# Altium integrated library TerminalBlocksPluggable_7.62mm.IntLib: 48 symbols
Pins are listed as number, name and electrical type; pins without a type are passive.

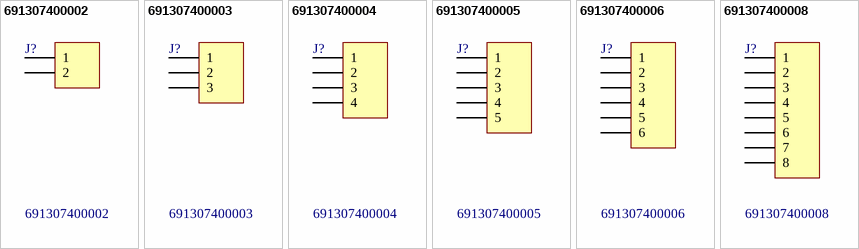
[diagram p0: symbols 691307400002 to 691307400008]

## 691307400002
designator J?
WR-TBL Terminal Blocks Serie 3074 - 7.62 mm; Manufacturer: Würth Elektronik eiSos GmbH; ComponentLink1 Description: Manufacturer; ComponentLink2 Description: Datasheet; NoPins: 02; Created Date: 11 April 2014; partNo: 691307400002; ComponentLink1URL: http://www.we-online.com; ComponentLink2URL: http://katalog.we-online.de/em/datasheet/6913074000xx.pdf; Created by: Karrer Zheng
footprint 691307400002 (7.62 mm - Reversed Gender Vertical PCB Header - 02p)
pins: 1, 2

## 691307400003
designator J?
WR-TBL Terminal Blocks Serie 3074 - 7.62 mm; Manufacturer: Würth Elektronik eiSos GmbH; ComponentLink1 Description: Manufacturer; ComponentLink2 Description: Datasheet; NoPins: 03; Created Date: 11 April 2014; partNo: 691307400003; ComponentLink1URL: http://www.we-online.com; ComponentLink2URL: http://katalog.we-online.de/em/datasheet/6913074000xx.pdf; Created by: Karrer Zheng
footprint 691307400003 (7.62 mm - Reversed Gender Vertical PCB Header - 03p)
pins: 1, 2, 3

## 691307400004
designator J?
WR-TBL Terminal Blocks Serie 3074 - 7.62 mm; Manufacturer: Würth Elektronik eiSos GmbH; ComponentLink1 Description: Manufacturer; ComponentLink2 Description: Datasheet; NoPins: 04; Created Date: 11 April 2014; partNo: 691307400004; ComponentLink1URL: http://www.we-online.com; ComponentLink2URL: http://katalog.we-online.de/em/datasheet/6913074000xx.pdf; Created by: Karrer Zheng
footprint 691307400004 (7.62 mm - Reversed Gender Vertical PCB Header - 04p)
pins: 1, 2, 3, 4

## 691307400005
designator J?
WR-TBL Terminal Blocks Serie 3074 - 7.62 mm; Manufacturer: Würth Elektronik eiSos GmbH; ComponentLink1 Description: Manufacturer; ComponentLink2 Description: Datasheet; NoPins: 05; Created Date: 11 April 2014; partNo: 691307400005; ComponentLink1URL: http://www.we-online.com; ComponentLink2URL: http://katalog.we-online.de/em/datasheet/6913074000xx.pdf; Created by: Karrer Zheng
footprint 691307400005 (7.62 mm - Reversed Gender Vertical PCB Header - 05p)
pins: 1, 2, 3, 4, 5

## 691307400006
designator J?
WR-TBL Terminal Blocks Serie 3074 - 7.62 mm; Manufacturer: Würth Elektronik eiSos GmbH; ComponentLink1 Description: Manufacturer; ComponentLink2 Description: Datasheet; NoPins: 06; Created Date: 11 April 2014; partNo: 691307400006; ComponentLink1URL: http://www.we-online.com; ComponentLink2URL: http://katalog.we-online.de/em/datasheet/6913074000xx.pdf; Created by: Karrer Zheng
footprint 691307400006 (7.62 mm - Reversed Gender Vertical PCB Header - 06p)
pins: 1, 2, 3, 4, 5, 6

## 691307400008
designator J?
WR-TBL Terminal Blocks Serie 3074 - 7.62 mm; Manufacturer: Würth Elektronik eiSos GmbH; ComponentLink1 Description: Manufacturer; ComponentLink2 Description: Datasheet; NoPins: 08; Created Date: 11 April 2014; partNo: 691307400008; ComponentLink1URL: http://www.we-online.com; ComponentLink2URL: http://katalog.we-online.de/em/datasheet/6913074000xx.pdf; Created by: Karrer Zheng
footprint 691307400008 (7.62 mm - Reversed Gender Vertical PCB Header - 08p)
pins: 1, 2, 3, 4, 5, 6, 7, 8


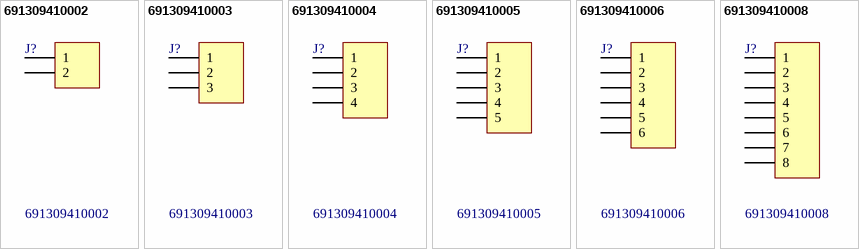
[diagram p1: symbols 691309410002 to 691309410008]

## 691309410002
designator J?
WR-TBL Terminal Blocks Serie 3094 - 7.62 mm; Manufacturer: Würth Elektronik eiSos GmbH; ComponentLink1 Description: Manufacturer; ComponentLink2 Description: Datasheet; NoPins: 02; Created Date: 11 April 2014; partNo: 691309410002; ComponentLink1URL: http://www.we-online.com; ComponentLink2URL: http://katalog.we-online.de/em/datasheet/6913094100xx.pdf; Created by: Karrer Zheng
footprint 691309410002
pins: 1, 2

## 691309410003
designator J?
WR-TBL Terminal Blocks Serie 3094 - 7.62 mm; Manufacturer: Würth Elektronik eiSos GmbH; ComponentLink1 Description: Manufacturer; ComponentLink2 Description: Datasheet; NoPins: 03; Created Date: 11 April 2014; partNo: 691309410003; ComponentLink1URL: http://www.we-online.com; ComponentLink2URL: http://katalog.we-online.de/em/datasheet/6913094100xx.pdf; Created by: Karrer Zheng
footprint 691309410003
pins: 1, 2, 3

## 691309410004
designator J?
WR-TBL Terminal Blocks Serie 3094 - 7.62 mm; Manufacturer: Würth Elektronik eiSos GmbH; ComponentLink1 Description: Manufacturer; ComponentLink2 Description: Datasheet; NoPins: 04; Created Date: 11 April 2014; partNo: 691309410004; ComponentLink1URL: http://www.we-online.com; ComponentLink2URL: http://katalog.we-online.de/em/datasheet/6913094100xx.pdf; Created by: Karrer Zheng
footprint 691309410004
pins: 1, 2, 3, 4

## 691309410005
designator J?
WR-TBL Terminal Blocks Serie 3094 - 7.62 mm; Manufacturer: Würth Elektronik eiSos GmbH; ComponentLink1 Description: Manufacturer; ComponentLink2 Description: Datasheet; NoPins: 05; Created Date: 11 April 2014; partNo: 691309410005; ComponentLink1URL: http://www.we-online.com; ComponentLink2URL: http://katalog.we-online.de/em/datasheet/6913094100xx.pdf; Created by: Karrer Zheng
footprint 691309410005
pins: 1, 2, 3, 4, 5

## 691309410006
designator J?
WR-TBL Terminal Blocks Serie 3094 - 7.62 mm; Manufacturer: Würth Elektronik eiSos GmbH; ComponentLink1 Description: Manufacturer; ComponentLink2 Description: Datasheet; NoPins: 06; Created Date: 11 April 2014; partNo: 691309410006; ComponentLink1URL: http://www.we-online.com; ComponentLink2URL: http://katalog.we-online.de/em/datasheet/6913094100xx.pdf; Created by: Karrer Zheng
footprint 691309410006
pins: 1, 2, 3, 4, 5, 6

## 691309410008
designator J?
WR-TBL Terminal Blocks Serie 3094 - 7.62 mm; Manufacturer: Würth Elektronik eiSos GmbH; ComponentLink1 Description: Manufacturer; ComponentLink2 Description: Datasheet; NoPins: 08; Created Date: 11 April 2014; partNo: 691309410008; ComponentLink1URL: http://www.we-online.com; ComponentLink2URL: http://katalog.we-online.de/em/datasheet/6913094100xx.pdf; Created by: Karrer Zheng
footprint 691309410008
pins: 1, 2, 3, 4, 5, 6, 7, 8


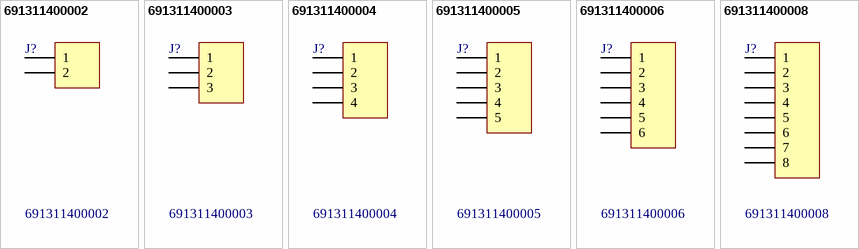
[diagram p2: symbols 691311400002 to 691311400008]

## 691311400002
designator J?
WR-TBL Terminal Blocks Serie 3114 - 7.62 mm; Manufacturer: Würth Elektronik eiSos GmbH; ComponentLink1 Description: Manufacturer; ComponentLink2 Description: Datasheet; NoPins: 02; Created Date: 09 April 2014; partNo: 691311400002; ComponentLink1URL: http://www.we-online.com; ComponentLink2URL: http://katalog.we-online.de/em/datasheet/6913114000xx.pdf; Created by: Karrer Zheng
footprint 691311400002 (7.62 mm - Open Vertical PCB Header - 2p)
pins: 1, 2

## 691311400003
designator J?
WR-TBL Terminal Blocks Serie 3114 - 7.62 mm; Manufacturer: Würth Elektronik eiSos GmbH; ComponentLink1 Description: Manufacturer; ComponentLink2 Description: Datasheet; NoPins: 03; Created Date: 09 April 2014; partNo: 691311400003; ComponentLink1URL: http://www.we-online.com; ComponentLink2URL: http://katalog.we-online.de/em/datasheet/6913114000xx.pdf; Created by: Karrer Zheng
footprint 691311400003 (7.62 mm - Open Vertical PCB Header - 3p)
pins: 1, 2, 3

## 691311400004
designator J?
WR-TBL Terminal Blocks Serie 3114 - 7.62 mm; Manufacturer: Würth Elektronik eiSos GmbH; ComponentLink1 Description: Manufacturer; ComponentLink2 Description: Datasheet; NoPins: 04; Created Date: 09 April 2014; partNo: 691311400004; ComponentLink1URL: http://www.we-online.com; ComponentLink2URL: http://katalog.we-online.de/em/datasheet/6913114000xx.pdf; Created by: Karrer Zheng
footprint 691311400004 (7.62 mm - Open Vertical PCB Header - 4p)
pins: 1, 2, 3, 4

## 691311400005
designator J?
WR-TBL Terminal Blocks Serie 3114 - 7.62 mm; Manufacturer: Würth Elektronik eiSos GmbH; ComponentLink1 Description: Manufacturer; ComponentLink2 Description: Datasheet; NoPins: 05; Created Date: 09 April 2014; partNo: 691311400005; ComponentLink1URL: http://www.we-online.com; ComponentLink2URL: http://katalog.we-online.de/em/datasheet/6913114000xx.pdf; Created by: Karrer Zheng
footprint 691311400005 (7.62 mm - Open Vertical PCB Header - 5p)
pins: 1, 2, 3, 4, 5

## 691311400006
designator J?
WR-TBL Terminal Blocks Serie 3114 - 7.62 mm; Manufacturer: Würth Elektronik eiSos GmbH; ComponentLink1 Description: Manufacturer; ComponentLink2 Description: Datasheet; NoPins: 06; Created Date: 09 April 2014; partNo: 691311400006; ComponentLink1URL: http://www.we-online.com; ComponentLink2URL: http://katalog.we-online.de/em/datasheet/6913114000xx.pdf; Created by: Karrer Zheng
footprint 691311400006 (7.62 mm - Open Vertical PCB Header - 6p)
pins: 1, 2, 3, 4, 5, 6

## 691311400008
designator J?
WR-TBL Terminal Blocks Serie 3114 - 7.62 mm; Manufacturer: Würth Elektronik eiSos GmbH; ComponentLink1 Description: Manufacturer; ComponentLink2 Description: Datasheet; NoPins: 08; Created Date: 09 April 2014; partNo: 691311400008; ComponentLink1URL: http://www.we-online.com; ComponentLink2URL: http://katalog.we-online.de/em/datasheet/6913114000xx.pdf; Created by: Karrer Zheng
footprint 691311400008 (7.62 mm - Open Vertical PCB Header - 8p)
pins: 1, 2, 3, 4, 5, 6, 7, 8


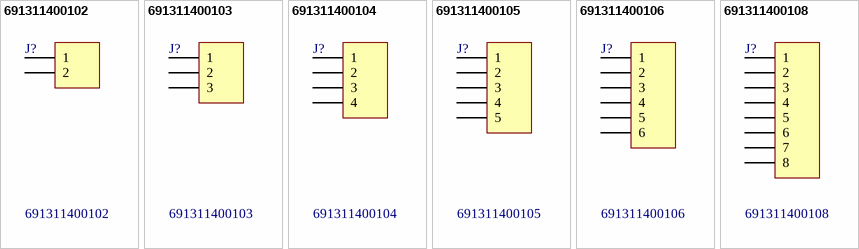
[diagram p3: symbols 691311400102 to 691311400108]

## 691311400102
designator J?
WR-TBL Terminal Blocks Serie 3114 - 7.62 mm; Manufacturer: Würth Elektronik eiSos GmbH; ComponentLink1 Description: Manufacturer; ComponentLink2 Description: Datasheet; NoPins: 02; Created Date: 09 April 2014; partNo: 691311400102; ComponentLink1URL: http://www.we-online.com; ComponentLink2URL: http://katalog.we-online.de/em/datasheet/6913114001xx.pdf; Created by: Karrer Zheng
footprint 691311400102 (7.62 mm - Closed Vertical PCB Header - 2p)
pins: 1, 2

## 691311400103
designator J?
WR-TBL Terminal Blocks Serie 3114 - 7.62 mm; Manufacturer: Würth Elektronik eiSos GmbH; ComponentLink1 Description: Manufacturer; ComponentLink2 Description: Datasheet; NoPins: 03; Created Date: 09 April 2014; partNo: 691311400103; ComponentLink1URL: http://www.we-online.com; ComponentLink2URL: http://katalog.we-online.de/em/datasheet/6913114001xx.pdf; Created by: Karrer Zheng
footprint 691311400103 (7.62 mm - Closed Vertical PCB Header - 3p)
pins: 1, 2, 3

## 691311400104
designator J?
WR-TBL Terminal Blocks Serie 3114 - 7.62 mm; Manufacturer: Würth Elektronik eiSos GmbH; ComponentLink1 Description: Manufacturer; ComponentLink2 Description: Datasheet; NoPins: 04; Created Date: 09 April 2014; partNo: 691311400104; ComponentLink1URL: http://www.we-online.com; ComponentLink2URL: http://katalog.we-online.de/em/datasheet/6913114001xx.pdf; Created by: Karrer Zheng
footprint 691311400104 (7.62 mm - Closed Vertical PCB Header - 4p)
pins: 1, 2, 3, 4

## 691311400105
designator J?
WR-TBL Terminal Blocks Serie 3114 - 7.62 mm; Manufacturer: Würth Elektronik eiSos GmbH; ComponentLink1 Description: Manufacturer; ComponentLink2 Description: Datasheet; NoPins: 05; Created Date: 09 April 2014; partNo: 691311400105; ComponentLink1URL: http://www.we-online.com; ComponentLink2URL: http://katalog.we-online.de/em/datasheet/6913114001xx.pdf; Created by: Karrer Zheng
footprint 691311400105 (7.62 mm - Closed Vertical PCB Header - 5p)
pins: 1, 2, 3, 4, 5

## 691311400106
designator J?
WR-TBL Terminal Blocks Serie 3114 - 7.62 mm; Manufacturer: Würth Elektronik eiSos GmbH; ComponentLink1 Description: Manufacturer; ComponentLink2 Description: Datasheet; NoPins: 06; Created Date: 09 April 2014; partNo: 691311400106; ComponentLink1URL: http://www.we-online.com; ComponentLink2URL: http://katalog.we-online.de/em/datasheet/6913114001xx.pdf; Created by: Karrer Zheng
footprint 691311400106 (7.62 mm - Closed Vertical PCB Header - 6p)
pins: 1, 2, 3, 4, 5, 6

## 691311400108
designator J?
WR-TBL Terminal Blocks Serie 3114 - 7.62 mm; Manufacturer: Würth Elektronik eiSos GmbH; ComponentLink1 Description: Manufacturer; ComponentLink2 Description: Datasheet; NoPins: 08; Created Date: 09 April 2014; partNo: 691311400108; ComponentLink1URL: http://www.we-online.com; ComponentLink2URL: http://katalog.we-online.de/em/datasheet/6913114001xx.pdf; Created by: Karrer Zheng
footprint 691311400108 (7.62 mm - Closed Vertical PCB Header - 8p)
pins: 1, 2, 3, 4, 5, 6, 7, 8


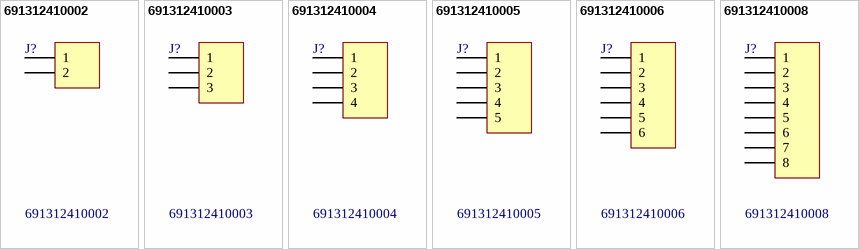
[diagram p4: symbols 691312410002 to 691312410008]

## 691312410002
designator J?
WR-TBL Terminal Blocks Serie 3124 - 7.62 mm; Manufacturer: Würth Elektronik eiSos GmbH; ComponentLink1 Description: Manufacturer; ComponentLink2 Description: Datasheet; NoPins: 02; Created Date: 09 April 2014; partNo: 691312410002; ComponentLink1URL: http://www.we-online.com; ComponentLink2URL: http://katalog.we-online.de/em/datasheet/6913124100xx.pdf; Created by: Karrer Zheng
footprint 691312410002 (7.62 mm -Open Horizontal PCB Header - 02p)
pins: 1, 2

## 691312410003
designator J?
WR-TBL Terminal Blocks Serie 3124 - 7.62 mm; Manufacturer: Würth Elektronik eiSos GmbH; ComponentLink1 Description: Manufacturer; ComponentLink2 Description: Datasheet; NoPins: 03; Created Date: 09 April 2014; partNo: 691312410003; ComponentLink1URL: http://www.we-online.com; ComponentLink2URL: http://katalog.we-online.de/em/datasheet/6913124100xx.pdf; Created by: Karrer Zheng
footprint 691312410003 (7.62 mm -Open Horizontal PCB Header - 03p)
pins: 1, 2, 3

## 691312410004
designator J?
WR-TBL Terminal Blocks Serie 3124 - 7.62 mm; Manufacturer: Würth Elektronik eiSos GmbH; ComponentLink1 Description: Manufacturer; ComponentLink2 Description: Datasheet; NoPins: 04; Created Date: 09 April 2014; partNo: 691312410004; ComponentLink1URL: http://www.we-online.com; ComponentLink2URL: http://katalog.we-online.de/em/datasheet/6913124100xx.pdf; Created by: Karrer Zheng
footprint 691312410004 (7.62 mm -Open Horizontal PCB Header - 04p)
pins: 1, 2, 3, 4

## 691312410005
designator J?
WR-TBL Terminal Blocks Serie 3124 - 7.62 mm; Manufacturer: Würth Elektronik eiSos GmbH; ComponentLink1 Description: Manufacturer; ComponentLink2 Description: Datasheet; NoPins: 05; Created Date: 09 April 2014; partNo: 691312410005; ComponentLink1URL: http://www.we-online.com; ComponentLink2URL: http://katalog.we-online.de/em/datasheet/6913124100xx.pdf; Created by: Karrer Zheng
footprint 691312410005 (7.62 mm -Open Horizontal PCB Header - 05p)
pins: 1, 2, 3, 4, 5

## 691312410006
designator J?
WR-TBL Terminal Blocks Serie 3124 - 7.62 mm; Manufacturer: Würth Elektronik eiSos GmbH; ComponentLink1 Description: Manufacturer; ComponentLink2 Description: Datasheet; NoPins: 06; Created Date: 09 April 2014; partNo: 691312410006; ComponentLink1URL: http://www.we-online.com; ComponentLink2URL: http://katalog.we-online.de/em/datasheet/6913124100xx.pdf; Created by: Karrer Zheng
footprint 691312410006 (7.62 mm -Open Horizontal PCB Header - 06p)
pins: 1, 2, 3, 4, 5, 6

## 691312410008
designator J?
WR-TBL Terminal Blocks Serie 3124 - 7.62 mm; Manufacturer: Würth Elektronik eiSos GmbH; ComponentLink1 Description: Manufacturer; ComponentLink2 Description: Datasheet; NoPins: 08; Created Date: 09 April 2014; partNo: 691312410008; ComponentLink1URL: http://www.we-online.com; ComponentLink2URL: http://katalog.we-online.de/em/datasheet/6913124100xx.pdf; Created by: Karrer Zheng
footprint 691312410008 (7.62 mm -Open Horizontal PCB Header - 08p)
pins: 1, 2, 3, 4, 5, 6, 7, 8


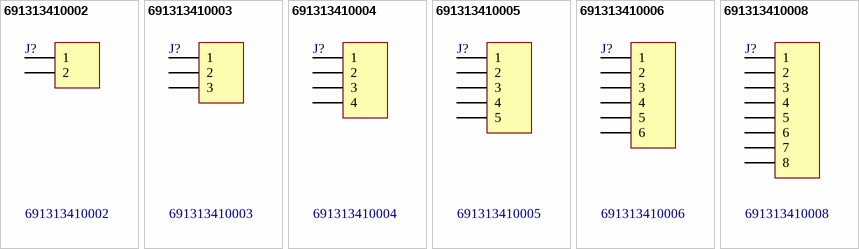
[diagram p5: symbols 691313410002 to 691313410008]

## 691313410002
designator J?
WR-TBL Terminal Blocks Serie 3134 - 7.62 mm; Manufacturer: Würth Elektronik eiSos GmbH; ComponentLink1 Description: Manufacturer; ComponentLink2 Description: Datasheet; NoPins: 02; Created Date: 09 April 2014; partNo: 691313410002; ComponentLink1URL: http://www.we-online.com; ComponentLink2URL: http://katalog.we-online.de/em/datasheet/6913134100xx.pdf; Created by: Karrer Zheng
footprint 691313410002 (7.62 mm - Closed Horizonal PCB Header - 2p)
pins: 1, 2

## 691313410003
designator J?
WR-TBL Terminal Blocks Serie 3134 - 7.62 mm; Manufacturer: Würth Elektronik eiSos GmbH; ComponentLink1 Description: Manufacturer; ComponentLink2 Description: Datasheet; NoPins: 03; Created Date: 09 April 2014; partNo: 691313410003; ComponentLink1URL: http://www.we-online.com; ComponentLink2URL: http://katalog.we-online.de/em/datasheet/6913134100xx.pdf; Created by: Karrer Zheng
footprint 691313410003 (7.62 mm - Closed Horizonal PCB Header - 3p)
pins: 1, 2, 3

## 691313410004
designator J?
WR-TBL Terminal Blocks Serie 3134 - 7.62 mm; Manufacturer: Würth Elektronik eiSos GmbH; ComponentLink1 Description: Manufacturer; ComponentLink2 Description: Datasheet; NoPins: 04; Created Date: 09 April 2014; partNo: 691313410004; ComponentLink1URL: http://www.we-online.com; ComponentLink2URL: http://katalog.we-online.de/em/datasheet/6913134100xx.pdf; Created by: Karrer Zheng
footprint 691313410004 (7.62 mm - Closed Horizonal PCB Header - 4p)
pins: 1, 2, 3, 4

## 691313410005
designator J?
WR-TBL Terminal Blocks Serie 3134 - 7.62 mm; Manufacturer: Würth Elektronik eiSos GmbH; ComponentLink1 Description: Manufacturer; ComponentLink2 Description: Datasheet; NoPins: 05; Created Date: 09 April 2014; partNo: 691313410005; ComponentLink1URL: http://www.we-online.com; ComponentLink2URL: http://katalog.we-online.de/em/datasheet/6913134100xx.pdf; Created by: Karrer Zheng
footprint 691313410005 (7.62 mm - Closed Horizonal PCB Header - 5p)
pins: 1, 2, 3, 4, 5

## 691313410006
designator J?
WR-TBL Terminal Blocks Serie 3134 - 7.62 mm; Manufacturer: Würth Elektronik eiSos GmbH; ComponentLink1 Description: Manufacturer; ComponentLink2 Description: Datasheet; NoPins: 06; Created Date: 09 April 2014; partNo: 691313410006; ComponentLink1URL: http://www.we-online.com; ComponentLink2URL: http://katalog.we-online.de/em/datasheet/6913134100xx.pdf; Created by: Karrer Zheng
footprint 691313410006 (7.62 mm - Closed Horizonal PCB Header - 6p)
pins: 1, 2, 3, 4, 5, 6

## 691313410008
designator J?
WR-TBL Terminal Blocks Serie 3134 - 7.62 mm; Manufacturer: Würth Elektronik eiSos GmbH; ComponentLink1 Description: Manufacturer; ComponentLink2 Description: Datasheet; NoPins: 08; Created Date: 09 April 2014; partNo: 691313410008; ComponentLink1URL: http://www.we-online.com; ComponentLink2URL: http://katalog.we-online.de/em/datasheet/6913134100xx.pdf; Created by: Karrer Zheng
footprint 691313410008 (7.62 mm - Closed Horizonal PCB Header - 8p)
pins: 1, 2, 3, 4, 5, 6, 7, 8


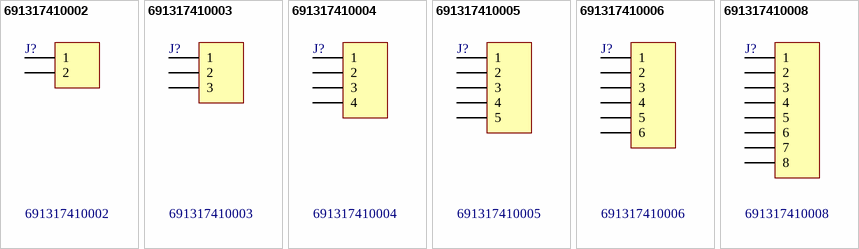
[diagram p6: symbols 691317410002 to 691317410008]

## 691317410002
designator J?
WR-TBL Terminal Blocks Serie 3174 - 7.62 mm with Flanges; Manufacturer: Würth Elektronik eiSos GmbH; ComponentLink1 Description: Manufacturer; ComponentLink2 Description: Datasheet; NoPins: 02; Created Date: 09 April 2014; partNo: 691317410002; ComponentLink1URL: http://www.we-online.com; ComponentLink2URL: http://katalog.we-online.de/em/datasheet/6913174100xx.pdf; Created by: Karrer Zheng
footprint 691317410002 (7.62 mm - Closed Horizonal PCB Header with Flanges - 2p)
pins: 1, 2

## 691317410003
designator J?
WR-TBL Terminal Blocks Serie 3174 - 7.62 mm with Flanges; Manufacturer: Würth Elektronik eiSos GmbH; ComponentLink1 Description: Manufacturer; ComponentLink2 Description: Datasheet; NoPins: 03; Created Date: 09 April 2014; partNo: 691317410003; ComponentLink1URL: http://www.we-online.com; ComponentLink2URL: http://katalog.we-online.de/em/datasheet/6913174100xx.pdf; Created by: Karrer Zheng
footprint 691317410003 (7.62 mm - Closed Horizonal PCB Header with Flanges - 3p)
pins: 1, 2, 3

## 691317410004
designator J?
WR-TBL Terminal Blocks Serie 3174 - 7.62 mm with Flanges; Manufacturer: Würth Elektronik eiSos GmbH; ComponentLink1 Description: Manufacturer; ComponentLink2 Description: Datasheet; NoPins: 04; Created Date: 09 April 2014; partNo: 691317410004; ComponentLink1URL: http://www.we-online.com; ComponentLink2URL: http://katalog.we-online.de/em/datasheet/6913174100xx.pdf; Created by: Karrer Zheng
footprint 691317410004 (7.62 mm - Closed Horizonal PCB Header with Flanges - 4p)
pins: 1, 2, 3, 4

## 691317410005
designator J?
WR-TBL Terminal Blocks Serie 3174 - 7.62 mm with Flanges; Manufacturer: Würth Elektronik eiSos GmbH; ComponentLink1 Description: Manufacturer; ComponentLink2 Description: Datasheet; NoPins: 05; Created Date: 09 April 2014; partNo: 691317410005; ComponentLink1URL: http://www.we-online.com; ComponentLink2URL: http://katalog.we-online.de/em/datasheet/6913174100xx.pdf; Created by: Karrer Zheng
footprint 691317410005 (7.62 mm - Closed Horizonal PCB Header with Flanges - 5p)
pins: 1, 2, 3, 4, 5

## 691317410006
designator J?
WR-TBL Terminal Blocks Serie 3174 - 7.62 mm with Flanges; Manufacturer: Würth Elektronik eiSos GmbH; ComponentLink1 Description: Manufacturer; ComponentLink2 Description: Datasheet; NoPins: 06; Created Date: 09 April 2014; partNo: 691317410006; ComponentLink1URL: http://www.we-online.com; ComponentLink2URL: http://katalog.we-online.de/em/datasheet/6913174100xx.pdf; Created by: Karrer Zheng
footprint 691317410006 (7.62 mm - Closed Horizonal PCB Header with Flanges - 6p)
pins: 1, 2, 3, 4, 5, 6

## 691317410008
designator J?
WR-TBL Terminal Blocks Serie 3174 - 7.62 mm with Flanges; Manufacturer: Würth Elektronik eiSos GmbH; ComponentLink1 Description: Manufacturer; ComponentLink2 Description: Datasheet; NoPins: 08; Created Date: 09 April 2014; partNo: 691317410008; ComponentLink1URL: http://www.we-online.com; ComponentLink2URL: http://katalog.we-online.de/em/datasheet/6913174100xx.pdf; Created by: Karrer Zheng
footprint 691317410008 (7.62 mm - Closed Horizonal PCB Header with Flanges - 8p)
pins: 1, 2, 3, 4, 5, 6, 7, 8


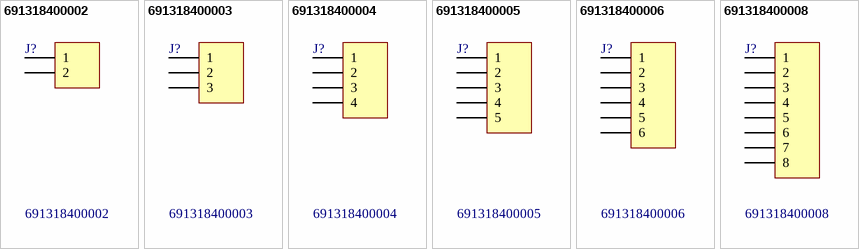
[diagram p7: symbols 691318400002 to 691318400008]

## 691318400002
designator J?
WR-TBL Terminal Blocks Serie 3184 - 7.62 mm  with Flanges; Manufacturer: Würth Elektronik eiSos GmbH; ComponentLink1 Description: Manufacturer; ComponentLink2 Description: Datasheet; NoPins: 02; Created Date: 09 April 2014; partNo: 691318400002; ComponentLink1URL: http://www.we-online.com; ComponentLink2URL: http://katalog.we-online.de/em/datasheet/6913184000xx.pdf; Created by: Karrer Zheng
footprint 691318400002 (7.62 mm - Closed Vertical PCB Header with Flanges - 2p)
pins: 1, 2

## 691318400003
designator J?
WR-TBL Terminal Blocks Serie 3184 - 7.62 mm  with Flanges; Manufacturer: Würth Elektronik eiSos GmbH; ComponentLink1 Description: Manufacturer; ComponentLink2 Description: Datasheet; NoPins: 03; Created Date: 09 April 2014; partNo: 691318400003; ComponentLink1URL: http://www.we-online.com; ComponentLink2URL: http://katalog.we-online.de/em/datasheet/6913184000xx.pdf; Created by: Karrer Zheng
footprint 691318400003 (7.62 mm - Closed Vertical PCB Header with Flanges - 3p)
pins: 1, 2, 3

## 691318400004
designator J?
WR-TBL Terminal Blocks Serie 3184 - 7.62 mm  with Flanges; Manufacturer: Würth Elektronik eiSos GmbH; ComponentLink1 Description: Manufacturer; ComponentLink2 Description: Datasheet; NoPins: 04; Created Date: 09 April 2014; partNo: 691318400004; ComponentLink1URL: http://www.we-online.com; ComponentLink2URL: http://katalog.we-online.de/em/datasheet/6913184000xx.pdf; Created by: Karrer Zheng
footprint 691318400004 (7.62 mm - Closed Vertical PCB Header with Flanges - 4p)
pins: 1, 2, 3, 4

## 691318400005
designator J?
WR-TBL Terminal Blocks Serie 3184 - 7.62 mm  with Flanges; Manufacturer: Würth Elektronik eiSos GmbH; ComponentLink1 Description: Manufacturer; ComponentLink2 Description: Datasheet; NoPins: 05; Created Date: 09 April 2014; partNo: 691318400005; ComponentLink1URL: http://www.we-online.com; ComponentLink2URL: http://katalog.we-online.de/em/datasheet/6913184000xx.pdf; Created by: Karrer Zheng
footprint 691318400005 (7.62 mm - Closed Vertical PCB Header with Flanges - 5p)
pins: 1, 2, 3, 4, 5

## 691318400006
designator J?
WR-TBL Terminal Blocks Serie 3184 - 7.62 mm  with Flanges; Manufacturer: Würth Elektronik eiSos GmbH; ComponentLink1 Description: Manufacturer; ComponentLink2 Description: Datasheet; NoPins: 06; Created Date: 09 April 2014; partNo: 691318400006; ComponentLink1URL: http://www.we-online.com; ComponentLink2URL: http://katalog.we-online.de/em/datasheet/6913184000xx.pdf; Created by: Karrer Zheng
footprint 691318400006 (7.62 mm - Closed Vertical PCB Header with Flanges - 6p)
pins: 1, 2, 3, 4, 5, 6

## 691318400008
designator J?
WR-TBL Terminal Blocks Serie 3184 - 7.62 mm  with Flanges; Manufacturer: Würth Elektronik eiSos GmbH; ComponentLink1 Description: Manufacturer; ComponentLink2 Description: Datasheet; NoPins: 08; Created Date: 09 April 2014; partNo: 691318400008; ComponentLink1URL: http://www.we-online.com; ComponentLink2URL: http://katalog.we-online.de/em/datasheet/6913184000xx.pdf; Created by: Karrer Zheng
footprint 691318400008 (7.62 mm - Closed Vertical PCB Header with Flanges - 8p)
pins: 1, 2, 3, 4, 5, 6, 7, 8